# Altium footprint library TestPoint.PcbLib: 6 footprints
Each footprint in its own frame and in the unit in brackets; x right, y up, seen from the top. Pads: shape width x height; smd on the part's side, far side on the other; paste and mask are expansions set on the pad; w line width, h text height; cw(c..) or ccw(c..) is an arc to the next point about the centre after c.
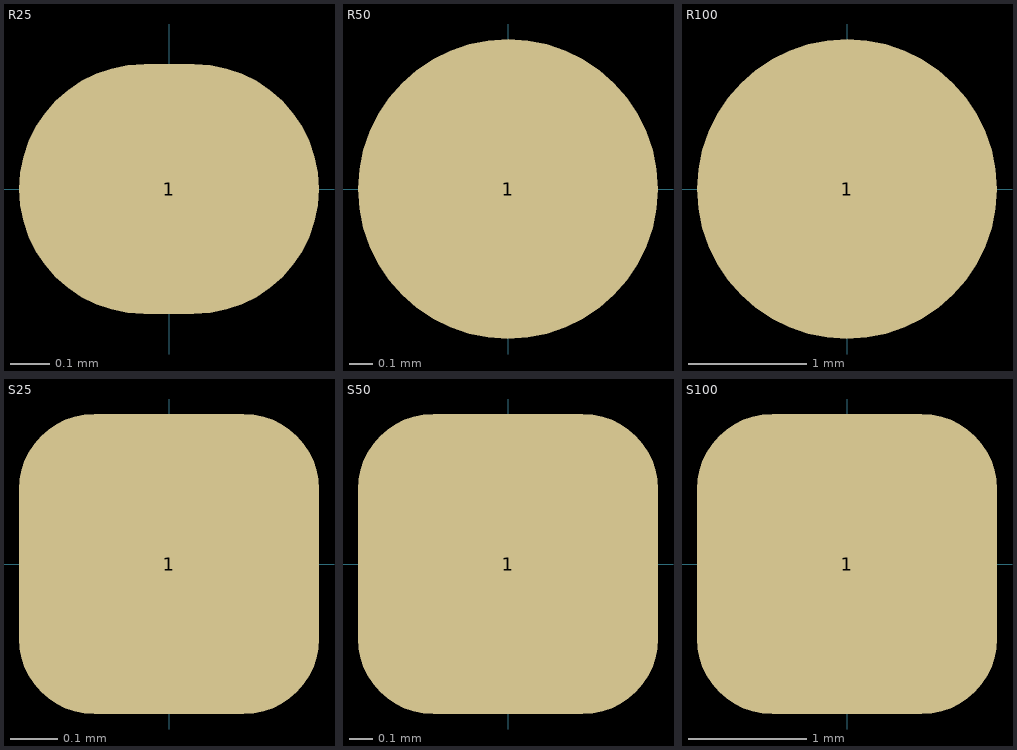
[diagram p0: the footprints below, top view; thin cyan lines are the x and y axes]

## R25 [mil] "Example Component"
height 20
pads (1):
  oval 30x25 smd paste-10 mask+1.5: 1(0,0)

## R50 [mil] "Example Component"
height 20
pads (1):
  round 50 smd paste-10 mask+1.5: 1(0,0)

## R100 [mil] "Example Component"
height 20
pads (1):
  round 100 smd paste-10 mask+1.5: 1(0,0)

## S25 [mil] "Example Component"
height 20
pads (1):
  rrect50% 25x25 smd paste-10 mask+1.5: 1(0,0)

## S50 [mil] "Example Component"
height 20
pads (1):
  rrect50% 50x50 smd paste-10 mask+1.5: 1(0,0)

## S100 [mil] "Example Component"
height 20
pads (1):
  rrect50% 100x100 smd paste-10 mask+1.5: 1(0,0)